# Altium schematic symbol library Components - 05.03.21 - 12.50.SchLib: 1 symbol
Pins are listed as number, name and electrical type; pins without a type are passive.

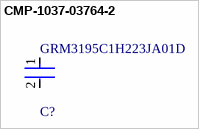
[diagram p0: symbol CMP-1037-03764-2]

## CMP-1037-03764-2
designator C?, comment GRM3195C1H223JA01D
Chip Multilayer Ceramic Capacitors for General Purpose, 1206, 22000pF, C0G, 30ppm/°C, 5%, 50V; Capacitance: 22nF; Insulation Resistance: 10GR; Dielectric: C0G; Dielectric Material: Ceramic; Termination: SMD/SMT; Voltage Rating: 50V; Width: 0.063inch; Number of Pins: 2; Mount: Surface Mount; REACH SVHC: No SVHC; Series: GRM; Voltage: 50V; Length: 3.2mm; Thickness: 0.037inch; Radiation Hardening: No; Case/Package: 1206; Case Code (Metric): 3216; Min Operating Temperature: -55°C; Package Quantity: 4000; Lead Free: Lead Free; Voltage Rating (DC): 50V; Height: 0.85mm; Depth: 1.6mm; Max Operating Temperature: 125°C; Packaging: Tape and Reel; Tolerance: 5%; Construction: Flat; Material: Ceramic; Temperature Coefficient: 30ppm/°C; Case Code (Imperial): 1206
footprint FP-GRM319-0_15-IPC_C
footprint FP-GRM319-0_15-MFG
footprint FP-GRM319-0_15-IPC_B
footprint FP-GRM319-0_15-IPC_A
pins: 1, 2